# Altium schematic symbol library MCP1501T-18E_CHY.SchLib: 1 symbol
Pins are listed as number, name and electrical type; pins without a type are passive.

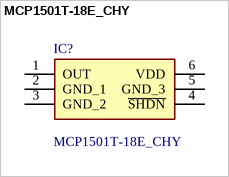
[diagram p0: symbol MCP1501T-18E_CHY]

## MCP1501T-18E_CHY
designator IC?
Voltage References Precision Buffered Voltage Reference; Manufacturer_Name: Microchip; Manufacturer_Part_Number: MCP1501T-18E/CHY; Geometry.Height: 1.45mm; Mouser Part Number: 579-MCP1501T-18E/CHY; Mouser Price/Stock: https://www.mouser.co.uk/ProductDetail/Microchip-Technology/MCP1501T-18E-CHY?qs=8cKuZ6Ok2latOja4XfHM6g%3D%3D; Arrow Part Number: MCP1501T-18E/CHY; Arrow Price/Stock: https://www.arrow.com/en/products/mcp1501t-18echy/microchip-technology?region=nac; Datasheet Link: http://ww1.microchip.com/downloads/en/DeviceDoc/20005474E.pdf
footprint SOT95P270X145-6N
pins: 1 OUT, 2 GND_1, 3 GND_2, 4 ~{SHDN}, 5 GND_3, 6 VDD